# EAGLE library part ISL3150E (library U-Transceiver)
TRANSCEIVER RS485 5V FULLDPLX 10MSOP
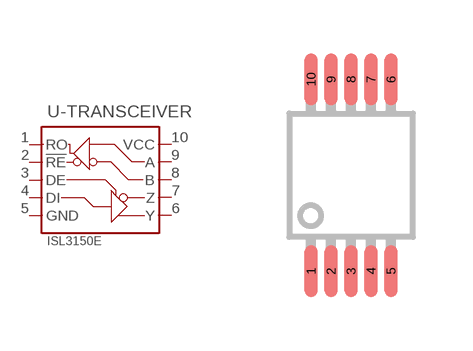
[diagram p0: symbol with the pads of MSOP10; footprint MSOP10]

Designator prefix U-TRANSCEIVER

## ISL3150EIUZ  [MSOP10]
1  RO  out
2  !RE  in
3  DE  in
4  DI  in
5  GND  in
6  Y
7  Z
8  B
9  A
10  VCC  in

## Footprint MSOP10 (pad centres in mm)
MSOP10, 10-Lead, 0.118" Wide, Miniature Small Outline Package WARNING MSOP10 spacing is not same as MSOP8 http://www.diodes.com/_files/zetex_files/pack/MSOP10.pdf http://cds.linear.com/docs/en/packaging/05081664_I_MSE.pdf Pad: 0.325 x 1.3mm Spacing: 0.5mm
smd 0.325 x 1.3: 1 -1,-2.4; 2 -0.5,-2.4; 3 0,-2.4; 4 0.5,-2.4; 5 1,-2.4; 6 1,2.4; 7 0.5,2.4; 8 0,2.4; 9 -0.5,2.4; 10 -1,2.4